# Altium footprint library Module.PcbLib: 47 footprints (part 2 of 4)
Each footprint in its own frame and in the unit in brackets; x right, y up, seen from the top. Pads: shape width x height; smd on the part's side, far side on the other; paste and mask are expansions set on the pad; w line width, h text height; cw(c..) or ccw(c..) is an arc to the next point about the centre after c.
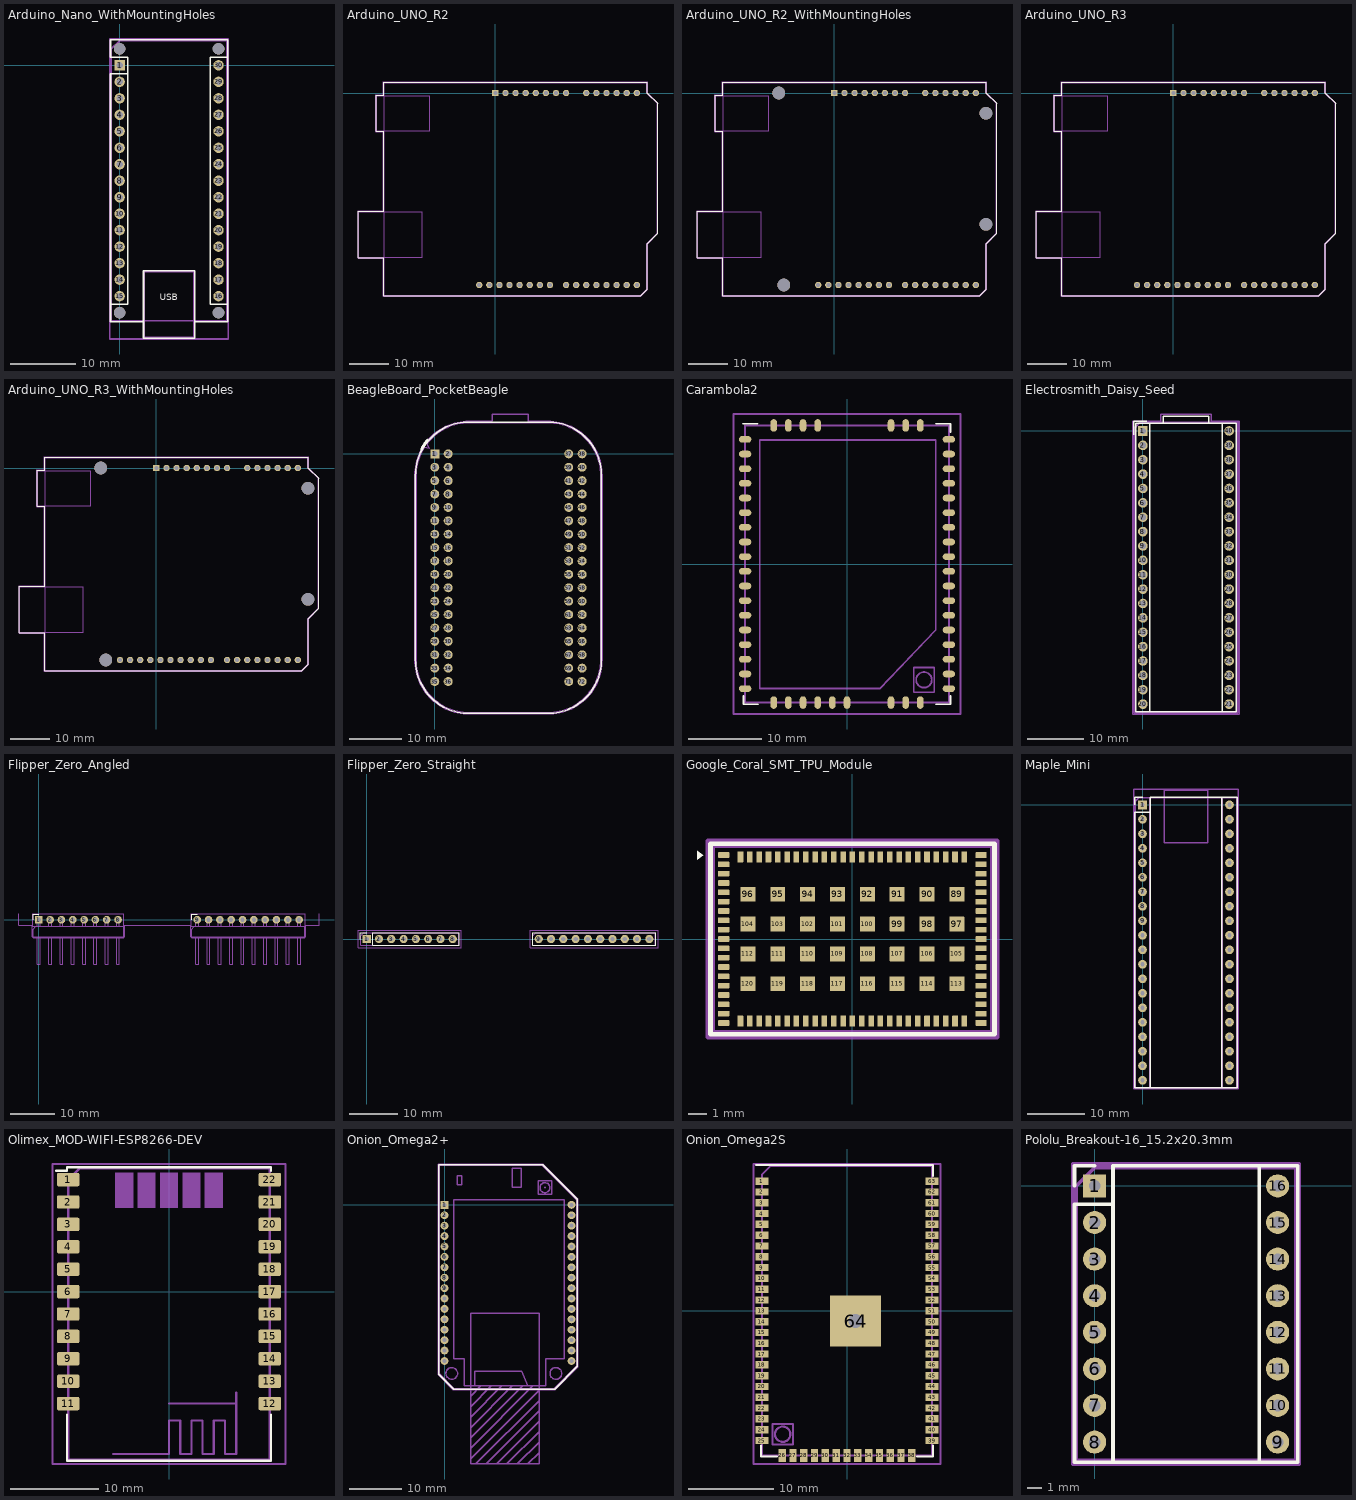
[diagram p1: the footprints below, top view; thin cyan lines are the x and y axes]

## Arduino_Nano_WithMountingHoles [mm]
pads (34):
  rect 1.6x1.6 hole 1: 1(0,0)
  rrect100% 1.6x1.6 hole 1: 2(0,-2.54) 3(0,-5.08) 4(0,-7.62) 5(0,-10.16) 6(0,-12.7) 7(0,-15.24) 8(0,-17.78) 9(0,-20.32) 10(0,-22.86) 11(0,-25.4) 12(0,-27.94) 13(0,-30.48) 14(0,-33.02) 15(0,-35.56) 16(15.24,-35.56) 17(15.24,-33.02) 18(15.24,-30.48) 19(15.24,-27.94) 20(15.24,-25.4) 21(15.24,-22.86) 22(15.24,-20.32) 23(15.24,-17.78) 24(15.24,-15.24) 25(15.24,-12.7) 26(15.24,-10.16) 27(15.24,-7.62) 28(15.24,-5.08) 29(15.24,-2.54) 30(15.24,0)
  round 1.78 hole 1.78: Un1(0,2.54) Un2(0,-38.1) Un3(15.24,2.54) Un4(15.24,-38.1)
F.SilkS:
  lines w0.254: -1.4,-36.83 1.27,-36.83 1.27,-1.27 ; 3.68,-39.5 -1.4,-39.5 -1.4,-1.27 1.27,-1.27 ; 11.56,-39.5 16.64,-39.5 16.64,3.94 -1.4,3.94 -1.4,1.27 1.27,1.27 1.27,-1.27 ; 16.64,-36.83 13.97,-36.83 13.97,1.27 16.64,1.27 ; 3.68,-42.04 11.56,-42.04 11.56,-31.62 3.68,-31.62 3.68,-42.04
  text "USB" at 6.22,-36.21 h1
Top Assembly:
  lines w0.254: -1.27,-39.37 16.51,-39.37 16.51,3.81 0,3.81 -1.27,2.54 -1.27,-39.37 ; 3.81,-41.91 11.43,-41.91 11.43,-31.75 3.81,-31.75 3.81,-41.91
  text "'.Designator'" at 7.19,-20.557 h1
Top Courtyard:
  lines w0.254: -1.53,-42.16 16.75,-42.16 16.75,4.06 -1.53,4.06 -1.53,-42.16
Top Designator:
  text ".Designator" at -0.008,-19.558 h1.52

## Arduino_UNO_R2 [mm]
pads (30):
  rect 1.6x1.6 hole 1: 1(0,0)
  rrect100% 1.6x1.6 hole 1: 2(2.54,0) 3(5.08,0) 4(7.62,0) 5(10.16,0) 6(12.7,0) 7(15.24,0) 8(17.78,0) 9(22.86,0) 10(25.4,0) 11(27.94,0) 12(30.48,0) 13(33.02,0) 14(35.56,0) 15(35.56,-48.26) 16(33.02,-48.26) 17(30.48,-48.26) 18(27.94,-48.26) 19(25.4,-48.26) 20(22.86,-48.26) 21(20.32,-48.26) 22(17.78,-48.26) 23(13.72,-48.26) 24(11.18,-48.26) 25(8.64,-48.26) 26(6.1,-48.26) 27(3.56,-48.26) 28(1.02,-48.26) 29(-1.52,-48.26) 30(-4.06,-48.26)
F.SilkS:
  lines w0.254: -34.42,-41.4 -28.07,-41.4 -28.07,-50.93 36.58,-50.93 38.23,-49.28 38.23,-37.85 40.77,-35.31 40.77,-2.54 38.23,0 38.23,2.67 -28.07,2.67 -28.07,-0.51 -29.97,-0.51 -29.97,-9.65 -28.07,-9.65 -28.07,-29.72 -34.42,-29.72 -34.42,-41.4
Top Assembly:
  lines w0.254: -34.29,-41.27 -18.41,-41.27 -18.41,-29.84 -34.29,-29.84 -34.29,-41.27 ; -29.84,-9.53 -16.51,-9.53 -16.51,-0.64 -29.84,-0.64 -29.84,-9.53 ; -27.94,-50.8 36.58,-50.8 38.1,-49.28 38.1,-37.85 40.64,-35.31 40.64,-2.54 38.1,0 38.1,2.54 -27.94,2.54 -27.94,-50.8
  text "'.Designator'" at -4.047,-19.89 h1
Top Courtyard:
  lines w0.254: -34.54,-41.53 -28.19,-41.53 -28.19,-51.05 36.58,-51.05 38.35,-49.28 38.35,-37.85 40.89,-35.31 40.89,-2.54 38.35,0 38.35,2.79 -28.19,2.79 -28.19,-0.38 -30.1,-0.38 -30.1,-9.78 -28.19,-9.78 -28.19,-29.59 -34.54,-29.59 -34.54,-41.53
Top Designator:
  text ".Designator" at -4.443,-24.638 h1.52

## Arduino_UNO_R2_WithMountingHoles [mm]
pads (34):
  rect 1.6x1.6 hole 1: 1(0,0)
  rrect100% 1.6x1.6 hole 1: 2(2.54,0) 3(5.08,0) 4(7.62,0) 5(10.16,0) 6(12.7,0) 7(15.24,0) 8(17.78,0) 9(22.86,0) 10(25.4,0) 11(27.94,0) 12(30.48,0) 13(33.02,0) 14(35.56,0) 15(35.56,-48.26) 16(33.02,-48.26) 17(30.48,-48.26) 18(27.94,-48.26) 19(25.4,-48.26) 20(22.86,-48.26) 21(20.32,-48.26) 22(17.78,-48.26) 23(13.72,-48.26) 24(11.18,-48.26) 25(8.64,-48.26) 26(6.1,-48.26) 27(3.56,-48.26) 28(1.02,-48.26) 29(-1.52,-48.26) 30(-4.06,-48.26)
  round 3.2 hole 3.2: Un1(-13.97,0) Un2(-12.7,-48.26) Un3(38.1,-5.08) Un4(38.1,-33.02)
F.SilkS:
  lines w0.254: -34.42,-41.4 -28.07,-41.4 -28.07,-50.93 36.58,-50.93 38.23,-49.28 38.23,-37.85 40.77,-35.31 40.77,-2.54 38.23,0 38.23,2.67 -28.07,2.67 -28.07,-0.51 -29.97,-0.51 -29.97,-9.65 -28.07,-9.65 -28.07,-29.72 -34.42,-29.72 -34.42,-41.4
Top Assembly:
  lines w0.254: -34.29,-41.27 -18.41,-41.27 -18.41,-29.84 -34.29,-29.84 -34.29,-41.27 ; -29.84,-9.53 -16.51,-9.53 -16.51,-0.64 -29.84,-0.64 -29.84,-9.53 ; -27.94,-50.8 36.58,-50.8 38.1,-49.28 38.1,-37.85 40.64,-35.31 40.64,-2.54 38.1,0 38.1,2.54 -27.94,2.54 -27.94,-50.8
  text "'.Designator'" at -4.047,-21.16 h1
Top Courtyard:
  lines w0.254: -34.54,-41.53 -28.19,-41.53 -28.19,-51.05 36.58,-51.05 38.35,-49.28 38.35,-37.85 40.89,-35.31 40.89,-2.54 38.35,0 38.35,2.79 -28.19,2.79 -28.19,-0.38 -30.1,-0.38 -30.1,-9.78 -28.19,-9.78 -28.19,-29.59 -34.54,-29.59 -34.54,-41.53
Top Designator:
  text ".Designator" at -4.443,-24.638 h1.52

## Arduino_UNO_R3 [mm]
pads (32):
  rect 1.6x1.6 hole 1: 1(0,0)
  rrect100% 1.6x1.6 hole 1: 2(2.54,0) 3(5.08,0) 4(7.62,0) 5(10.16,0) 6(12.7,0) 7(15.24,0) 8(17.78,0) 9(22.86,0) 10(25.4,0) 11(27.94,0) 12(30.48,0) 13(33.02,0) 14(35.56,0) 15(35.56,-48.26) 16(33.02,-48.26) 17(30.48,-48.26) 18(27.94,-48.26) 19(25.4,-48.26) 20(22.86,-48.26) 21(20.32,-48.26) 22(17.78,-48.26) 23(13.72,-48.26) 24(11.18,-48.26) 25(8.64,-48.26) 26(6.1,-48.26) 27(3.56,-48.26) 28(1.02,-48.26) 29(-1.52,-48.26) 30(-4.06,-48.26) 31(-6.6,-48.26) 32(-9.14,-48.26)
F.SilkS:
  lines w0.254: -34.42,-41.4 -28.07,-41.4 -28.07,-50.93 36.58,-50.93 38.23,-49.28 38.23,-37.85 40.77,-35.31 40.77,-2.54 38.23,0 38.23,2.67 -28.07,2.67 -28.07,-0.51 -29.97,-0.51 -29.97,-9.65 -28.07,-9.65 -28.07,-29.72 -34.42,-29.72 -34.42,-41.4
Top Assembly:
  lines w0.254: -34.29,-41.27 -18.41,-41.27 -18.41,-29.84 -34.29,-29.84 -34.29,-41.27 ; -29.84,-9.53 -16.51,-9.53 -16.51,-0.64 -29.84,-0.64 -29.84,-9.53 ; -27.94,-50.8 36.58,-50.8 38.1,-49.28 38.1,-37.85 40.64,-35.31 40.64,-2.54 38.1,0 38.1,2.54 -27.94,2.54 -27.94,-50.8
  text "'.Designator'" at -4.047,-21.16 h1
Top Courtyard:
  lines w0.254: -34.54,-41.53 -28.19,-41.53 -28.19,-51.05 36.58,-51.05 38.35,-49.28 38.35,-37.85 40.89,-35.31 40.89,-2.54 38.35,0 38.35,2.79 -28.19,2.79 -28.19,-0.38 -30.1,-0.38 -30.1,-9.78 -28.19,-9.78 -28.19,-29.59 -34.54,-29.59 -34.54,-41.53
Top Designator:
  text ".Designator" at -4.443,-24.638 h1.52

## Arduino_UNO_R3_WithMountingHoles [mm]
pads (36):
  rect 1.6x1.6 hole 1: 1(0,0)
  rrect100% 1.6x1.6 hole 1: 2(2.54,0) 3(5.08,0) 4(7.62,0) 5(10.16,0) 6(12.7,0) 7(15.24,0) 8(17.78,0) 9(22.86,0) 10(25.4,0) 11(27.94,0) 12(30.48,0) 13(33.02,0) 14(35.56,0) 15(35.56,-48.26) 16(33.02,-48.26) 17(30.48,-48.26) 18(27.94,-48.26) 19(25.4,-48.26) 20(22.86,-48.26) 21(20.32,-48.26) 22(17.78,-48.26) 23(13.72,-48.26) 24(11.18,-48.26) 25(8.64,-48.26) 26(6.1,-48.26) 27(3.56,-48.26) 28(1.02,-48.26) 29(-1.52,-48.26) 30(-4.06,-48.26) 31(-6.6,-48.26) 32(-9.14,-48.26)
  round 3.2 hole 3.2: Un1(-13.97,0) Un2(-12.7,-48.26) Un3(38.1,-5.08) Un4(38.1,-33.02)
F.SilkS:
  lines w0.254: -34.42,-41.4 -28.07,-41.4 -28.07,-50.93 36.58,-50.93 38.23,-49.28 38.23,-37.85 40.77,-35.31 40.77,-2.54 38.23,0 38.23,2.67 -28.07,2.67 -28.07,-0.51 -29.97,-0.51 -29.97,-9.65 -28.07,-9.65 -28.07,-29.72 -34.42,-29.72 -34.42,-41.4
Top Assembly:
  lines w0.254: -34.29,-41.27 -18.41,-41.27 -18.41,-29.84 -34.29,-29.84 -34.29,-41.27 ; -29.84,-9.53 -16.51,-9.53 -16.51,-0.64 -29.84,-0.64 -29.84,-9.53 ; -27.94,-50.8 36.58,-50.8 38.1,-49.28 38.1,-37.85 40.64,-35.31 40.64,-2.54 38.1,0 38.1,2.54 -27.94,2.54 -27.94,-50.8
  text "'.Designator'" at -4.047,-21.16 h1
Top Courtyard:
  lines w0.254: -34.54,-41.53 -28.19,-41.53 -28.19,-51.05 36.58,-51.05 38.35,-49.28 38.35,-37.85 40.89,-35.31 40.89,-2.54 38.35,0 38.35,2.79 -28.19,2.79 -28.19,-0.38 -30.1,-0.38 -30.1,-9.78 -28.19,-9.78 -28.19,-29.59 -34.54,-29.59 -34.54,-41.53
Top Designator:
  text ".Designator" at -4.443,-24.638 h1.52

## BeagleBoard_PocketBeagle [mm]
pads (72):
  rect 1.7x1.7 hole 1: 1(0,0)
  rrect100% 1.7x1.7 hole 1: 2(2.54,0) 3(0,-2.54) 4(2.54,-2.54) 5(0,-5.08) 6(2.54,-5.08) 7(0,-7.62) 8(2.54,-7.62) 9(0,-10.16) 10(2.54,-10.16) 11(0,-12.7) 12(2.54,-12.7) 13(0,-15.24) 14(2.54,-15.24) 15(0,-17.78) 16(2.54,-17.78) 17(0,-20.32) 18(2.54,-20.32) 19(0,-22.86) 20(2.54,-22.86) 21(0,-25.4) 22(2.54,-25.4) 23(0,-27.94) 24(2.54,-27.94) 25(0,-30.48) 26(2.54,-30.48) 27(0,-33.02) 28(2.54,-33.02) 29(0,-35.56) 30(2.54,-35.56) 31(0,-38.1) 32(2.54,-38.1) 33(0,-40.64) 34(2.54,-40.64) 35(0,-43.18) 36(2.54,-43.18) 38(27.94,0) 39(25.4,-2.54) 40(27.94,-2.54) 41(25.4,-5.08) 42(27.94,-5.08) 43(25.4,-7.62) 44(27.94,-7.62) 45(25.4,-10.16) 46(27.94,-10.16) 47(25.4,-12.7) 48(27.94,-12.7) 49(25.4,-15.24) 50(27.94,-15.24) 51(25.4,-17.78) 52(27.94,-17.78) 53(25.4,-20.32) 54(27.94,-20.32) 55(25.4,-22.86) 56(27.94,-22.86) 57(25.4,-25.4) 58(27.94,-25.4) 59(25.4,-27.94) 60(27.94,-27.94) 61(25.4,-30.48) 62(27.94,-30.48) 63(25.4,-33.02) 64(27.94,-33.02) 65(25.4,-35.56) 66(27.94,-35.56) 67(25.4,-38.1) 68(27.94,-38.1) 69(25.4,-40.64) 70(27.94,-40.64) 71(25.4,-43.18) 72(27.94,-43.18)
  round 1.7 hole 1: 37(25.4,0)
F.SilkS:
  lines w0.254: -2.703,0.856 cw(c6.47,-4.09) -1.34,2.81 ; -3.66,-39.09 ccw(c6.47,-39.09) 6.47,-49.22 21.47,-49.22 ccw(c21.47,-39.09) 31.6,-39.09 31.6,-4.09 ccw(c21.47,-4.09) 21.47,6.04 6.47,6.04 ccw(c6.47,-4.09) -3.66,-4.09 -3.66,-39.09
Top Assembly:
  lines w0.254: -3.53,-4.09 -3.53,-39.09 ccw(c6.47,-39.09) 6.47,-49.09 21.47,-49.09 ccw(c21.47,-39.09) 31.47,-39.09 31.47,-4.09 ; -3.529,-4.09 cw(c6.47,-4.09) -1.99,1.24 -1.05,1.05 -1.51,1.94 ; -1.506,1.942 cw(c6.47,-4.09) 6.47,5.91 21.47,5.91 ; 21.473,5.91 cw(c21.47,-4.09) 31.47,-4.11
  text "'.Designator'" at 9.923,-22.43 h1
Top Courtyard:
  lines w0.254: -3.78,-39.09 ccw(c6.47,-39.09) 6.47,-49.34 21.47,-49.34 ccw(c21.47,-39.09) 31.72,-39.09 31.72,-4.09 ccw(c21.47,-4.09) 21.47,6.16 17.69,6.16 17.69,7.56 10.87,7.56 10.87,6.16 6.47,6.16 ccw(c6.47,-4.09) -3.78,-4.09 -3.78,-39.09
Top Designator:
  text ".Designator" at 6.352,-21.398 h1.52

## Carambola2 [mm]
pads (104):
  rrect100% 1.7x0.9 smd: 1(-13.9,17) 2(-13.9,15) 3(-13.9,13) 4(-13.9,11) 5(-13.9,9) 6(-13.9,7) 7(-13.9,5) 8(-13.9,3) 9(-13.9,1) 10(-13.9,-1) 11(-13.9,-3) 12(-13.9,-5) 13(-13.9,-7) 14(-13.9,-9) 15(-13.9,-11) 16(-13.9,-13) 17(-13.9,-15) 18(-13.9,-17) 28(13.9,-17) 29(13.9,-15) 30(13.9,-13) 31(13.9,-11) 32(13.9,-9) 33(13.9,-7) 34(13.9,-5) 35(13.9,-3) 36(13.9,-1) 37(13.9,1) 38(13.9,3) 39(13.9,5) 40(13.9,7) 41(13.9,9) 42(13.9,11) 43(13.9,13) 44(13.9,15) 45(13.9,17)
  rrect100% 0.9x1.7 smd: 19(-10,-18.9) 20(-8,-18.9) 21(-6,-18.9) 22(-4,-18.9) 23(-2,-18.9) 24(0,-18.9) 25(6,-18.9) 26(8,-18.9) 27(10,-18.9) 46(10,18.9) 47(8,18.9) 48(6,18.9) 49(-4,18.9) 50(-6,18.9) 51(-8,18.9) 52(-10,18.9)
  round 0.9 on Top Paste: Un1(-13.5,17) Un2(-13.5,15) Un3(-13.5,13) Un4(-13.5,9) Un5(-13.5,7) Un6(-13.5,5) Un7(-13.5,3) Un8(-13.5,1) Un9(-13.5,-1) Un10(-13.5,-3) Un11(-13.5,-5) Un12(-13.5,-7) Un13(-13.5,-9) Un14(-13.5,-11) Un15(-13.5,-15) Un16(-13.5,-17) Un17(-13.45,11) Un18(-13.45,-13) Un19(-10,18.5) Un20(-10,-18.5) Un21(-8,18.5) Un22(-8,-18.5) Un23(-6,18.5) Un24(-6,-18.5) Un25(-4,18.5) Un26(-4,-18.5) Un27(-2,-18.5) Un28(0,-18.5) Un29(6,18.5) Un30(6,-18.5) Un31(8,18.5) Un32(8,-18.5) Un33(10,18.5) Un34(10,-18.5) Un35(13.5,17) Un36(13.5,15) Un37(13.5,13) Un38(13.5,11) Un39(13.5,9) Un40(13.5,7) Un41(13.5,5) Un42(13.5,3) Un43(13.5,1) Un44(13.5,-1) Un45(13.5,-3) Un46(13.5,-5) Un47(13.5,-7) Un48(13.5,-9) Un49(13.5,-11) Un50(13.5,-13) Un51(13.5,-15) Un52(13.5,-17)
F.SilkS:
  lines w0.254: -14.17,19.125 -12.175,19.125 ; -14.125,-17.98 -14.125,-19.125 -12.125,-19.125 ; 12.125,-19.125 14.125,-19.125 14.125,-17.975 ; 12.125,19.125 14.125,19.125 14.125,17.98
F.Paste:
  drawing of 103 lines, arcs and shapes, not listed
Top Assembly:
  circle w0.254: c10.5,-15.8 r1.063
  lines w0.254: -13.9,-18.9 13.9,-18.9 13.9,18.9 -13.9,18.9 -13.9,-18.9 ; -11.9,-17 4.5,-17 12.1,-9 12.1,16.9 -11.9,16.9 -11.9,-17 ; 9.1,-17.5 11.9,-17.5 11.9,-14.1 9.1,-14.1 9.1,-17.5
  text "'.Designator'" at -4.047,-0.84 h1
Top Courtyard:
  lines w0.254: -15.46,-20.46 15.46,-20.46 15.46,20.46 -15.46,20.46 -15.46,-20.46
Top Designator:
  text ".Designator" at -7.618,-0.508 h1.52

## Electrosmith_Daisy_Seed [mm]
pads (40):
  rect 1.7x1.7 hole 1.1: 1(0,0)
  round 1.7 hole 1.1: 2(0,-2.54) 3(0,-5.08) 4(0,-7.62) 5(0,-10.16) 6(0,-12.7) 7(0,-15.24) 8(0,-17.78) 9(0,-20.32) 10(0,-22.86) 11(0,-25.4) 12(0,-27.94) 13(0,-30.48) 14(0,-33.02) 15(0,-35.56) 16(0,-38.1) 17(0,-40.64) 18(0,-43.18) 19(0,-45.72) 20(0,-48.26) 21(15.24,-48.26) 22(15.24,-45.72) 23(15.24,-43.18) 24(15.24,-40.64) 25(15.24,-38.1) 26(15.24,-35.56) 27(15.24,-33.02) 28(15.24,-30.48) 29(15.24,-27.94) 30(15.24,-25.4) 31(15.24,-22.86) 32(15.24,-20.32) 33(15.24,-17.78) 34(15.24,-15.24) 35(15.24,-12.7) 36(15.24,-10.16) 37(15.24,-7.62) 38(15.24,-5.08) 39(15.24,-2.54) 40(15.24,0)
F.SilkS:
  lines w0.254: -1.58,-0.7 -1.58,1.7 0.72,1.7 ; 1.2,-49.6 1.2,1.4 ; 3.62,1.4 3.62,2.6 11.62,2.6 11.62,1.4 ; 14,-49.6 14,1.4 ; -1.28,-49.6 16.52,-49.6 16.52,1.4 -1.28,1.4 -1.28,-49.6
Top Assembly:
  lines w0.254: -1.5,-49.76 16.74,-49.76 16.74,1.5 -0.5,1.5 -1.5,0.5 -1.5,-49.76
  text "'.Designator'" at 3.573,-22.84 h1
Top Courtyard:
  lines w0.254: -1.75,-50.01 16.99,-50.01 16.99,1.75 12.12,1.75 12.12,3 3.12,3 3.12,1.75 -1.75,1.75 -1.75,-50.01
Top Designator:
  text ".Designator" at 0.002,-24.013 h1.52

## Flipper_Zero_Angled [mm]
pads (18):
  rect 1.7x1.7 hole 0.9: 1(0,0)
  rrect100% 1.7x1.7 hole 0.9: 2(2.54,0) 3(5.08,0) 4(7.62,0) 5(10.16,0) 6(12.7,0) 7(15.24,0) 8(17.78,0) 9(35.56,0) 10(38.1,0) 11(40.64,0) 12(43.18,0) 13(45.72,0) 14(48.26,0) 15(50.8,0) 16(53.34,0) 17(55.88,0) 18(58.42,0)
F.SilkS:
  lines w0.254: -1.27,0 -1.27,1.27 0,1.27 ; 34.29,0 34.29,1.27 35.56,1.27
Margin:
  lines w0.254: -4.45,1.4 -4.45,-1.24 -1.45,-1.24 -1.45,-3.84 19.25,-3.84 19.25,-1.24 34.11,-1.24 34.11,-3.84 59.89,-3.84 59.89,-1.24 62.89,-1.24 62.89,1.4
Top Assembly:
  lines w0.254: -0.32,-4.04 -0.32,-10.04 0.32,-10.04 0.32,-4.04 ; -0.32,-1.5 -0.32,0.32 0.32,0.32 0.32,-1.5 ; 2.22,-4.04 2.22,-10.04 2.86,-10.04 2.86,-4.04 ; 2.22,-1.5 2.22,0.32 2.86,0.32 2.86,-1.5 ; 4.76,-4.04 4.76,-10.04 5.4,-10.04 5.4,-4.04 ; 4.76,-1.5 4.76,0.32 5.4,0.32 5.4,-1.5 ; 7.3,-4.04 7.3,-10.04 7.94,-10.04 7.94,-4.04 ; 7.3,-1.5 7.3,0.32 7.94,0.32 7.94,-1.5 ; 9.84,-4.04 9.84,-10.04 10.48,-10.04 10.48,-4.04 ; 9.84,-1.5 9.84,0.32 10.48,0.32 10.48,-1.5 ; 12.38,-4.04 12.38,-10.04 13.02,-10.04 13.02,-4.04 ; 12.38,-1.5 12.38,0.32 13.02,0.32 13.02,-1.5 ; 14.92,-4.04 14.92,-10.04 15.56,-10.04 15.56,-4.04 ; 14.92,-1.5 14.92,0.32 15.56,0.32 15.56,-1.5 ; 17.46,-4.04 17.46,-10.04 18.1,-10.04 18.1,-4.04 ; 17.46,-1.5 17.46,0.32 18.1,0.32 18.1,-1.5 ; 35.24,-4.04 35.24,-10.04 35.88,-10.04 35.88,-4.04 ; 35.24,-1.5 35.24,0.32 35.88,0.32 35.88,-1.5 ; 37.78,-4.04 37.78,-10.04 38.42,-10.04 38.42,-4.04 ; 37.78,-1.5 37.78,0.32 38.42,0.32 38.42,-1.5 ; 40.32,-4.04 40.32,-10.04 40.96,-10.04 40.96,-4.04 ; 40.32,-1.5 40.32,0.32 40.96,0.32 40.96,-1.5 ; 42.86,-4.04 42.86,-10.04 43.5,-10.04 43.5,-4.04 ; 42.86,-1.5 42.86,0.32 43.5,0.32 43.5,-1.5 ; 45.4,-4.04 45.4,-10.04 46.04,-10.04 46.04,-4.04 ; 45.4,-1.5 45.4,0.32 46.04,0.32 46.04,-1.5 ; 47.94,-4.04 47.94,-10.04 48.58,-10.04 48.58,-4.04 ; 47.94,-1.5 47.94,0.32 48.58,0.32 48.58,-1.5 ; 50.48,-4.04 50.48,-10.04 51.12,-10.04 51.12,-4.04 ; 50.48,-1.5 50.48,0.32 51.12,0.32 51.12,-1.5 ; 53.02,-4.04 53.02,-10.04 53.66,-10.04 53.66,-4.04 ; 53.02,-1.5 53.02,0.32 53.66,0.32 53.66,-1.5 ; 55.56,-4.04 55.56,-10.04 56.2,-10.04 56.2,-4.04 ; 55.56,-1.5 55.56,0.32 56.2,0.32 56.2,-1.5 ; 58.1,-4.04 58.1,-10.04 58.74,-10.04 58.74,-4.04 ; 58.1,-1.5 58.1,0.32 58.74,0.32 58.74,-1.5 ; -1.27,-4.04 19.05,-4.04 19.05,-1.5 -0.635,-1.5 -1.27,-2.135 -1.27,-4.04 ; 34.29,-4.04 59.69,-4.04 59.69,-1.5 34.925,-1.5 34.29,-2.135 34.29,-4.04
  text "'.Designator'" at 4.953,2.16 h1
Top Courtyard:
  lines w0.254: -1.4,-1.5 -1.4,1.4 19.1,1.4 19.1,-1.5 -1.4,-1.5 ; 34.2,-1.5 34.2,1.4 59.8,1.4 59.8,-1.5 34.2,-1.5
Top Designator:
  text ".Designator" at 21.602,-3.913 h1.52

## Flipper_Zero_Straight [mm]
pads (18):
  rect 1.7x1.7 hole 0.9: 1(0,0)
  rrect100% 1.7x1.7 hole 0.9: 2(2.54,0) 3(5.08,0) 4(7.62,0) 5(10.16,0) 6(12.7,0) 7(15.24,0) 8(17.78,0) 10(38.1,0) 11(40.64,0) 12(43.18,0) 13(45.72,0) 14(48.26,0) 15(50.8,0) 16(53.34,0) 17(55.88,0) 18(58.42,0)
  round 1.7 hole 1: 9(35.56,0)
F.SilkS:
  lines w0.254: -1.33,0 -1.33,1.33 0,1.33 ; 1.27,-1.33 1.27,1.33 19.11,1.33 19.11,-1.33 1.27,-1.33 ; 34.29,-1.33 34.29,1.33 59.75,1.33 59.75,-1.33 34.29,-1.33
Top Assembly:
  lines w0.254: -1.27,-1.27 -1.27,0.635 -0.635,1.27 19.05,1.27 19.05,-1.27 -1.27,-1.27 ; 34.29,-1.27 34.29,0.635 34.925,1.27 59.69,1.27 59.69,-1.27 34.29,-1.27
  text "'.Designator'" at 4.953,2.16 h1
Top Courtyard:
  lines w0.254: -1.8,-1.8 -1.8,1.8 19.55,1.8 19.55,-1.8 -1.8,-1.8 ; 33.76,-1.8 33.76,1.8 60.21,1.8 60.21,-1.8 33.76,-1.8
Top Designator:
  text ".Designator" at 21.587,0.207 h1.52

## Google_Coral_SMT_TPU_Module [mm]
pads (120):
  rrect17% 0.6x0.3 smd: 1(-6.9,4.5) 2(-6.9,4) 3(-6.9,3.5) 4(-6.9,3) 5(-6.9,2.5) 6(-6.9,2) 7(-6.9,1.5) 8(-6.9,1) 9(-6.9,0.5) 10(-6.9,0) 11(-6.9,-0.5) 12(-6.9,-1) 13(-6.9,-1.5) 14(-6.9,-2) 15(-6.9,-2.5) 16(-6.9,-3) 17(-6.9,-3.5) 18(-6.9,-4) 19(-6.9,-4.5) 45(6.9,-4.5) 46(6.9,-4) 47(6.9,-3.5) 48(6.9,-3) 49(6.9,-2.5) 50(6.9,-2) 51(6.9,-1.5) 52(6.9,-1) 53(6.9,-0.5) 54(6.9,0) 55(6.9,0.5) 56(6.9,1) 57(6.9,1.5) 58(6.9,2) 59(6.9,2.5) 60(6.9,3) 61(6.9,3.5) 62(6.9,4) 63(6.9,4.5)
  rrect17% 0.3x0.6 smd: 20(-6,-4.4) 21(-5.5,-4.4) 22(-5,-4.4) 23(-4.5,-4.4) 24(-4,-4.4) 25(-3.5,-4.4) 26(-3,-4.4) 27(-2.5,-4.4) 28(-2,-4.4) 29(-1.5,-4.4) 30(-1,-4.4) 31(-0.5,-4.4) 32(0,-4.4) 33(0.5,-4.4) 34(1,-4.4) 35(1.5,-4.4) 36(2,-4.4) 37(2.5,-4.4) 38(3,-4.4) 39(3.5,-4.4) 40(4,-4.4) 41(4.5,-4.4) 42(5,-4.4) 43(5.5,-4.4) 44(6,-4.4) 64(6,4.4) 65(5.5,4.4) 66(5,4.4) 67(4.5,4.4) 68(4,4.4) 69(3.5,4.4) 70(3,4.4) 71(2.5,4.4) 72(2,4.4) 73(1.5,4.4) 74(1,4.4) 75(0.5,4.4) 76(0,4.4) 77(-0.5,4.4) 78(-1,4.4) 79(-1.5,4.4) 80(-2,4.4) 81(-2.5,4.4) 82(-3,4.4) 83(-3.5,4.4) 84(-4,4.4) 85(-4.5,4.4) 86(-5,4.4) 87(-5.5,4.4) 88(-6,4.4)
  rrect6% 0.8x0.8 smd: 89(5.6,2.4) 90(4,2.4) 91(2.4,2.4) 92(0.8,2.4) 93(-0.8,2.4) 94(-2.4,2.4) 95(-4,2.4) 96(-5.6,2.4) 97(5.6,0.8) 98(4,0.8) 99(2.4,0.8) 100(0.8,0.8) 101(-0.8,0.8) 102(-2.4,0.8) 103(-4,0.8) 104(-5.6,0.8) 105(5.6,-0.8) 106(4,-0.8) 107(2.4,-0.8) 108(0.8,-0.8) 109(-0.8,-0.8) 110(-2.4,-0.8) 111(-4,-0.8) 112(-5.6,-0.8) 113(5.6,-2.4) 114(4,-2.4) 115(2.4,-2.4) 116(0.8,-2.4) 117(-0.8,-2.4) 118(-2.4,-2.4) 119(-4,-2.4) 120(-5.6,-2.4)
F.SilkS:
  region: -8,4.5 -8.33,4.26 -8.33,4.74
  lines w0.254: 7.61,-5.11 -7.61,-5.11 -7.61,5.11 7.61,5.11 ; 7.61,-5.1 7.61,5.1
Top Assembly:
  lines w0.254: -7.5,-5 7.5,-5 7.5,5 -7.5,5 -7.5,-5
  text "'.Designator'" at -6,-1.49 h1
Top Courtyard:
  lines w0.254: -7.75,-5.25 7.75,-5.25 7.75,5.25 -7.75,5.25 -7.75,-5.25
Top Designator:
  text ".Designator" at -7.844,-0.508 h1.52
3D body "Google_Coral_SMT_TPU_Module.step": height 1.55, standoff 0, extent -7.5,-5 7.5,5

## Maple_Mini [mil]
pads (40):
  rect 60x60 hole 30: 1(0,0)
  round 60 hole 30: 2(0,-100) 3(0,-200) 4(0,-300) 5(0,-400) 6(0,-500) 7(0,-600) 8(0,-700) 9(0,-800) 10(0,-900) 11(0,-1000) 12(0,-1100) 13(0,-1200) 14(0,-1300) 15(0,-1400) 16(0,-1500) 17(0,-1600) 18(0,-1700) 19(0,-1800) 20(0,-1900) 21(600,-1900) 22(600,-1800) 23(600,-1700) 24(600,-1600) 25(600,-1500) 26(600,-1400) 27(600,-1300) 28(600,-1200) 29(600,-1100) 30(600,-1000) 31(600,-900) 32(600,-800) 33(600,-700) 34(600,-600) 35(600,-500) 36(600,-400) 37(600,-300) 38(600,-200) 39(600,-100) 40(600,0)
F.SilkS:
  lines w10: -52.36,0 -52.36,52.36 0,52.36 ; 52.36,-1952.36 52.36,52.36 652.36,52.36 652.36,-1952.36 -52.36,-1952.36 -52.36,-50 52.36,-50 ; 547.64,-1952.36 547.64,52.36
Top Assembly:
  lines w10: 50,-1950 50,50 ; 550,-1950 550,50 ; -50,-1950 -50,25 -25,50 650,50 650,-1950 -50,-1950 ; 150,-260 150,100 450,100 450,-260 150,-260
  text "'.Designator'" at 140.68,-983.08 h39.37
Top Courtyard:
  lines w10: -59.84,-1959.84 -59.84,109.84 659.84,109.84 659.84,-1959.84 -59.84,-1959.84
Top Designator:
  text ".Designator" at 0.1,-944.99 h60

## Olimex_MOD-WIFI-ESP8266-DEV [mil]
pads (22):
  rrect25% 100x60 smd: 1(-450,500) 2(-450,400) 3(-450,300) 4(-450,200) 5(-450,100) 6(-450,0) 7(-450,-100) 8(-450,-200) 9(-450,-300) 10(-450,-400) 11(-450,-500) 12(450,-500) 13(450,-400) 14(450,-300) 15(450,-200) 16(450,-100) 17(450,0) 18(450,100) 19(450,200) 20(450,300) 21(450,400) 22(450,500)
F.SilkS:
  lines w10: -505,540 -455,540 -455,555 455,555 455,540 ; -455,-550 -455,-755 455,-755 455,-550
Top Assembly:
  region: 239.37,374.02 160.63,374.02 160.63,531.5 239.37,531.5
  region: 139.37,374.02 60.63,374.02 60.63,531.5 139.37,531.5
  region: 39.37,374.02 -39.37,374.02 -39.37,531.5 39.37,531.5
  region: -60.63,374.02 -139.37,374.02 -139.37,531.5 -60.63,531.5
  region: -160.63,374.02 -239.37,374.02 -239.37,531.5 -160.63,531.5
  lines w10: -250,-725 0,-725 0,-575 50,-575 50,-725 100,-725 100,-575 150,-575 150,-725 200,-725 200,-575 250,-575 250,-725 300,-725 300,-450 ; 0,-500 300,-500 ; -450,-750 450,-750 450,550 -400,550 -450,500 -450,-750
  text "'.Designator'" at -159.32,45.66 h39.37
Top Courtyard:
  lines w10: -519.68,-769.68 519.68,-769.68 519.68,569.68 -519.68,569.68 -519.68,-769.68
Top Designator:
  text ".Designator" at -299.9,-119.99 h60

## Onion_Omega2+ [mil]
pads (32):
  rect 60x60 hole 30: 1(0,0)
  round 60 hole 30: 2(0,-78.74) 3(0,-157.48) 4(0,-236.22) 5(0,-314.96) 6(0,-393.7) 7(0,-472.44) 8(0,-551.18) 9(0,-629.92) 10(0,-708.66) 11(0,-787.4) 12(0,-866.14) 13(0,-944.88) 14(0,-1023.62) 15(0,-1102.36) 16(0,-1181.1) 17(960.63,-1181.1) 18(960.63,-1102.36) 19(960.63,-1023.62) 20(960.63,-944.88) 21(960.63,-866.14) 22(960.63,-787.4) 23(960.63,-708.66) 24(960.63,-629.92) 25(960.63,-551.18) 26(960.63,-472.44) 27(960.63,-393.7) 28(960.63,-314.96) 29(960.63,-236.22) 30(960.63,-157.48) 31(960.63,-78.74) 32(960.63,0)
F.SilkS:
  lines w10: -44.29,-1281.5 68.9,-1394.68 832.68,-1394.68 1004.92,-1222.44 1004.92,41.34 742.13,304.13 -44.29,304.13 -44.29,-1281.5
Top Assembly:
  circle w10: c842.52,-1275.59 r44.29
  circle w10: c759.84,129.92 r37.4
  circle w10: c759.84,129.92 r1.97
  circle w10: c55.12,-1275.59 r44.29
  lines w10: -39.37,-1279.53 70.87,-1389.76 830.71,-1389.76 1000,-1220.47 1000,39.37 740.16,299.21 -39.37,299.21 -39.37,-1279.53 ; 68.9,-1165.35 147.64,-1165.35 147.64,-1370.08 767.72,-1370.08 767.72,-1165.35 905.51,-1165.35 905.51,39.37 68.9,39.37 68.9,-1165.35 ; 97.44,151.57 130.91,151.57 130.91,218.5 97.44,218.5 97.44,151.57 ; 196.85,-1370.08 228.35,-1370.08 228.35,-1259.84 582.68,-1259.84 629.92,-1370.08 716.54,-1370.08 716.54,-818.9 196.85,-818.9 196.85,-1370.08 ; 512.8,131.89 581.69,131.89 581.69,277.56 512.8,277.56 512.8,131.89 ; 708.66,78.74 811.02,78.74 811.02,181.1 708.66,181.1 708.66,78.74
  text "'.Designator'" at 320.99,-623.63 h39.37
Top Courtyard:
  lines w10: -49.21,-1283.46 66.93,-1399.61 834.65,-1399.61 1009.84,-1224.41 1009.84,43.31 744.09,309.06 -49.21,309.06 -49.21,-1283.46
Top Designator:
  text ".Designator" at 180.41,-845.78 h60
Dwgs.User:
  lines w10: 196.85,-1921.26 716.54,-1401.57 ; 196.85,-1842.52 669.29,-1370.08 ; 196.85,-1763.78 590.55,-1370.08 ; 196.85,-1685.04 511.81,-1370.08 ; 196.85,-1606.3 433.07,-1370.08 ; 196.85,-1527.56 354.33,-1370.08 ; 196.85,-1448.82 275.59,-1370.08 ; 236.22,-1960.63 716.54,-1480.32 ; 314.96,-1960.63 716.54,-1559.06 ; 393.7,-1960.63 716.54,-1637.8 ; 472.44,-1960.63 716.54,-1716.54 ; 551.18,-1960.63 716.54,-1795.28 ; 629.92,-1960.63 716.54,-1874.02 ; 196.85,-1960.63 716.54,-1960.63 716.54,-1370.08 196.85,-1370.08 196.85,-1960.63
Cmts.User:
  text "SD CARD" at 330.45,-1690.94 h39.37

## Onion_Omega2S [mm]
pads (90):
  rect 1.5x0.86 smd: 1(-10,15.24) 2(-10,13.97) 3(-10,12.7) 4(-10,11.43) 5(-10,10.16) 6(-10,8.89) 7(-10,7.62) 8(-10,6.35) 9(-10,5.08) 10(-10,3.81) 11(-10,2.54) 12(-10,1.27) 13(-10,0) 14(-10,-1.27) 15(-10,-2.54) 16(-10,-3.81) 17(-10,-5.08) 18(-10,-6.35) 19(-10,-7.62) 20(-10,-8.89) 21(-10,-10.16) 22(-10,-11.43) 23(-10,-12.7) 24(-10,-13.97) 25(-10,-15.24) 39(10,-15.24) 40(10,-13.97) 41(10,-12.7) 42(10,-11.43) 43(10,-10.16) 44(10,-8.89) 45(10,-7.62) 46(10,-6.35) 47(10,-5.08) 48(10,-3.81) 49(10,-2.54) 50(10,-1.27) 51(10,0) 52(10,1.27) 53(10,2.54) 54(10,3.81) 55(10,5.08) 56(10,6.35) 57(10,7.62) 58(10,8.89) 59(10,10.16) 60(10,11.43) 61(10,12.7) 62(10,13.97) 63(10,15.24)
  rect 0.86x1.5 smd: 26(-7.62,-17) 27(-6.35,-17) 28(-5.08,-17) 29(-3.81,-17) 30(-2.54,-17) 31(-1.27,-17) 32(0,-17) 33(1.27,-17) 34(2.54,-17) 35(3.81,-17) 36(5.08,-17) 37(6.35,-17) 38(7.62,-17)
  rect 6x6 smd: 64(1,-1.2)
  rrect25% 1x1 on Top Paste: Un1(-1.333,1.123) Un2(-1.333,-0.041) Un3(-1.333,-1.205) Un4(-1.333,-2.369) Un5(-1.333,-3.533) Un6(-0.167,1.123) Un7(-0.167,-0.041) Un8(-0.167,-1.205) Un9(-0.167,-2.369) Un10(-0.167,-3.533) Un11(0.998,1.123) Un12(0.998,-0.041) Un13(0.998,-1.205) Un14(0.998,-2.369) Un15(0.998,-3.533) Un17(2.164,1.123) Un18(2.164,-0.041) Un19(2.164,-1.205) Un20(2.164,-2.369) Un21(2.164,-3.533) Un22(3.33,1.123) Un23(3.33,-0.041) Un24(3.33,-1.205) Un25(3.33,-2.369) Un26(3.33,-3.533)
  round 1.6 hole 1.6: Un16(1,-1.2)
F.SilkS:
  lines w0.254: -10.69,17.12 10.12,17.12 10.12,15.85 ; -10.12,-15.85 -10.12,-17.12 -8.23,-17.12 ; 8.23,-17.12 10.12,-17.12 10.12,-15.85
Top Assembly:
  circle w0.254: c-7.56,-14.5 r0.9
  lines w0.254: -10,-17 10,-17 10,17 -9,17 -10,16 -10,-17 ; -8.76,-15.7 -6.36,-15.7 -6.36,-13.3 -8.76,-13.3 -8.76,-15.7
  text "'.Designator'" at -4.047,1.9 h1
Top Courtyard:
  lines w0.254: -11,-18 11,-18 11,17.25 -11,17.25 -11,-18
Top Designator:
  text ".Designator" at -7.618,-0.883 h1.52

## Pololu_Breakout-16_15.2x20.3mm [mm]
pads (16):
  rect 1.6x1.6 hole 0.8: 1(0,0)
  rrect100% 1.6x1.6 hole 0.8: 2(0,-2.54) 3(0,-5.08) 4(0,-7.62) 5(0,-10.16) 6(0,-12.7) 7(0,-15.24) 8(0,-17.78) 9(12.7,-17.78) 10(12.7,-15.24) 11(12.7,-12.7) 12(12.7,-10.16) 13(12.7,-7.62) 14(12.7,-5.08) 15(12.7,-2.54) 16(12.7,0)
F.SilkS:
  lines w0.254: -1.4,0 -1.4,1.4 0,1.4 ; 1.27,-19.18 1.27,-1.27 ; 11.43,-19.18 11.43,1.4 ; 1.27,-1.27 -1.4,-1.27 -1.4,-19.18 14.1,-19.18 14.1,1.4 1.27,1.4 1.27,-1.27
Top Assembly:
  lines w0.254: -1.27,-19.05 13.97,-19.05 13.97,1.27 0,1.27 -1.27,0 -1.27,-19.05
  text "'.Designator'" at 2.303,-0.84 h1
Top Courtyard:
  lines w0.254: -1.53,-19.3 14.21,-19.3 14.21,1.52 -1.53,1.52 -1.53,-19.3
Top Designator:
  text ".Designator" at -1.278,-9.398 h1.52